# Altium schematic symbol library J 接插件.SchLib: 59 symbols
Pins are listed as number, name and electrical type; pins without a type are passive.

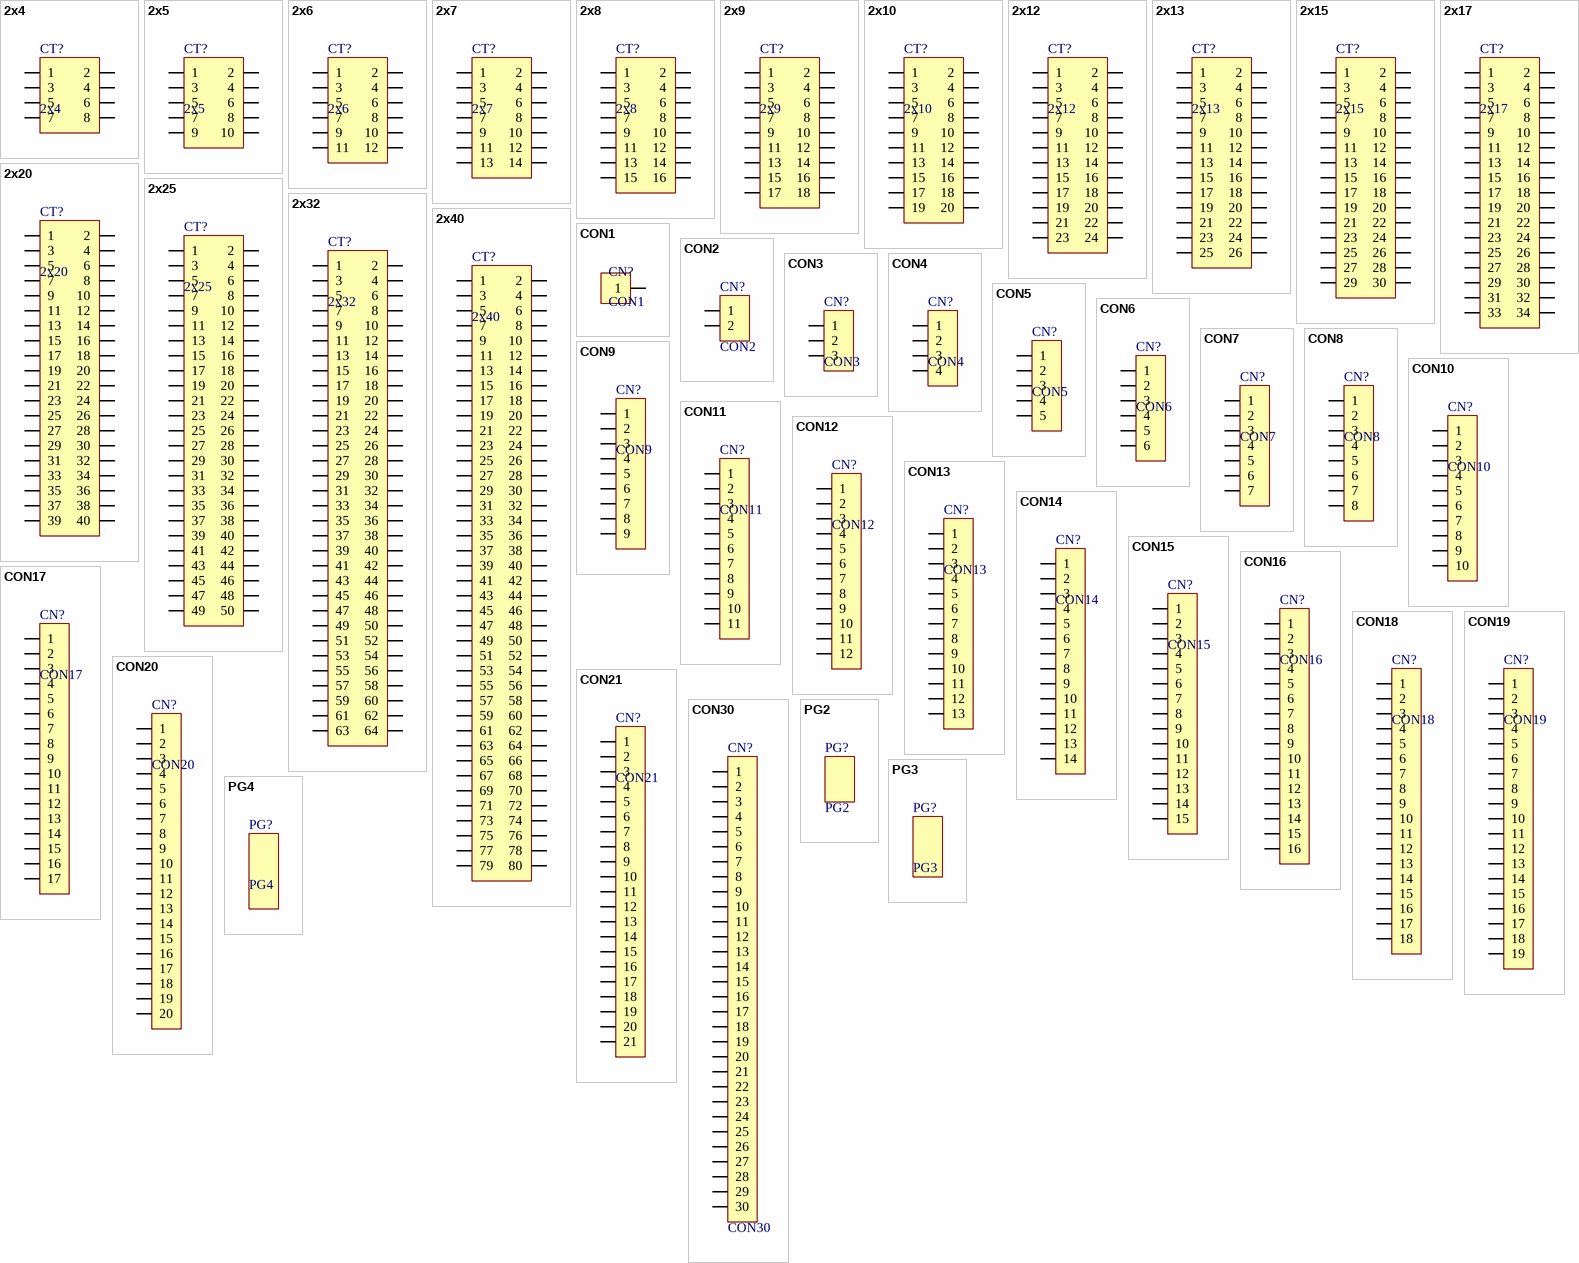
[diagram p0: symbols 2x4 to PG4]

## 2x4
designator CT?
双排，8针
pins: 1, 2, 3, 4, 5, 6, 7, 8

## 2x5
designator CT?
双排，10针
pins: 1, 2, 3, 4, 5, 6, 7, 8, 9, 10

## 2x6
designator CT?
双排，12针
pins: 1, 2, 3, 4, 5, 6, 7, 8, 9, 10, 11, 12

## 2x7
designator CT?
双排，14针
pins: 1, 2, 3, 4, 5, 6, 7, 8, 9, 10, 11, 12, 13, 14

## 2x8
designator CT?
双排，16针
pins: 1, 2, 3, 4, 5, 6, 7, 8, 9, 10, 11, 12, 13, 14, 15, 16

## 2x9
designator CT?
双排，18针
pins: 1, 2, 3, 4, 5, 6, 7, 8, 9, 10, 11, 12, 13, 14, 15, 16, 17, 18

## 2x10
designator CT?
双排，20针
pins: 1, 2, 3, 4, 5, 6, 7, 8, 9, 10, 11, 12, 13, 14, 15, 16, 17, 18, 19, 20

## 2x12
designator CT?
双排，24针
pins: 1, 2, 3, 4, 5, 6, 7, 8, 9, 10, 11, 12, 13, 14, 15, 16, 17, 18, 19, 20, 21, 22, 23, 24

## 2x13
designator CT?
双排，26针
pins: 1, 2, 3, 4, 5, 6, 7, 8, 9, 10, 11, 12, 13, 14, 15, 16, 17, 18, 19, 20, 21, 22, 23, 24, 25, 26

## 2x15
designator CT?
双排，30针
pins: 1, 2, 3, 4, 5, 6, 7, 8, 9, 10, 11, 12, 13, 14, 15, 16, 17, 18, 19, 20, 21, 22, 23, 24, 25, 26, 27, 28, 29, 30

## 2x17
designator CT?
双排，34针
pins: 1, 2, 3, 4, 5, 6, 7, 8, 9, 10, 11, 12, 13, 14, 15, 16, 17, 18, 19, 20, 21, 22, 23, 24, 25, 26, 27, 28, 29, 30, 31, 32, 33, 33 34

## 2x20
designator CT?
双排，40针
pins: 1, 2, 3, 4, 5, 6, 7, 8, 9, 10, 11, 12, 13, 14, 15, 16, 17, 18, 19, 20, 21, 22, 23, 24, 25, 26, 27, 28, 29, 30, 31, 32, 33, 34, 35, 36, 37, 38, 39, 40

## 2x25
designator CT?
双排，50针
pins: 1, 2, 3, 4, 5, 6, 7, 8, 9, 10, 11, 12, 13, 14, 15, 16, 17, 18, 19, 20, 21, 22, 23, 24, 25, 26, 27, 28, 29, 30, 31, 32, 33, 33 34, 35, 36, 37, 38, 39, 40, 41, 42, 43, 44, 45, 46, 47, 48, 49, 50

## 2x32
designator CT?
双排，64针
pins: 1, 2, 3, 4, 5, 6, 7, 8, 9, 10, 11, 12, 13, 14, 15, 16, 17, 18, 19, 20, 21, 22, 23, 24, 25, 26, 27, 28, 29, 30, 31, 32, 33, 33 34, 35, 36, 37, 38, 39, 40, 41, 42, 43, 44, 45, 46, 47, 48, 49, 50, 51, 52, 53, 54, 55, 56, 57, 58, 59, 60, 61, 62, 63, 64

## 2x40
designator CT?
双排，80针
pins: 1, 2, 3, 4, 5, 6, 7, 8, 9, 10, 11, 12, 13, 14, 15, 16, 17, 18, 19, 20, 21, 22, 23, 24, 25, 26, 27, 28, 29, 30, 31, 32, 33, 34, 35, 36, 37, 38, 39, 40, 41, 42, 43, 44, 45, 46, 47, 48, 49, 50, 51, 52, 53, 54, 55, 56, 57, 58, 59, 60, 61, 62, 63, 64, 65, 66, 67, 68, 69, 70, 71, 72, 73, 74, 75, 76, 77, 78, 79, 80

## CON1
designator CN?
pins: 1

## CON2
designator CN?
pins: 1, 2

## CON3
designator CN?
pins: 1, 2, 3

## CON4
designator CN?
pins: 1, 2, 3, 4

## CON5
designator CN?
pins: 1, 2, 3, 4, 5

## CON6
designator CN?
pins: 1, 2, 3, 4, 5, 6

## CON7
designator CN?
pins: 1, 2, 3, 4, 5, 6, 7

## CON8
designator CN?
pins: 1, 2, 3, 4, 5, 6, 7, 8

## CON9
designator CN?
pins: 1, 2, 3, 4, 5, 6, 7, 8, 9

## CON10
designator CN?
pins: 1, 2, 3, 4, 5, 6, 7, 8, 9, 10

## CON11
designator CN?
pins: 1, 2, 3, 4, 5, 6, 7, 8, 9, 10, 11

## CON12
designator CN?
pins: 1, 2, 3, 4, 5, 6, 7, 8, 9, 10, 11, 12

## CON13
designator CN?
pins: 1, 2, 3, 4, 5, 6, 7, 8, 9, 10, 11, 12, 13

## CON14
designator CN?
pins: 1, 2, 3, 4, 5, 6, 7, 8, 9, 10, 11, 12, 13, 14

## CON15
designator CN?
pins: 1, 2, 3, 4, 5, 6, 7, 8, 9, 10, 11, 12, 13, 14, 15

## CON16
designator CN?
pins: 1, 2, 3, 4, 5, 6, 7, 8, 9, 10, 11, 12, 13, 14, 15, 16

## CON17
designator CN?
pins: 1, 2, 3, 4, 5, 6, 7, 8, 9, 10, 11, 12, 13, 14, 15, 16, 17

## CON18
designator CN?
pins: 1, 2, 3, 4, 5, 6, 7, 8, 9, 10, 11, 12, 13, 14, 15, 16, 17, 18

## CON19
designator CN?
pins: 1, 2, 3, 4, 5, 6, 7, 8, 9, 10, 11, 12, 13, 14, 15, 16, 17, 18, 19

## CON20
designator CN?
pins: 1, 2, 3, 4, 5, 6, 7, 8, 9, 10, 11, 12, 13, 14, 15, 16, 17, 18, 19, 20

## CON21
designator CN?
pins: 1, 2, 3, 4, 5, 6, 7, 8, 9, 10, 11, 12, 13, 14, 15, 16, 17, 18, 19, 20, 21

## CON30
designator CN?
pins: 1, 2, 3, 4, 5, 6, 7, 8, 9, 10, 11, 12, 13, 14, 15, 16, 17, 18, 19, 20, 21, 22, 23, 24, 25, 26, 27, 28, 29, 30

## PG2
designator PG?

## PG3
designator PG?

## PG4
designator PG?

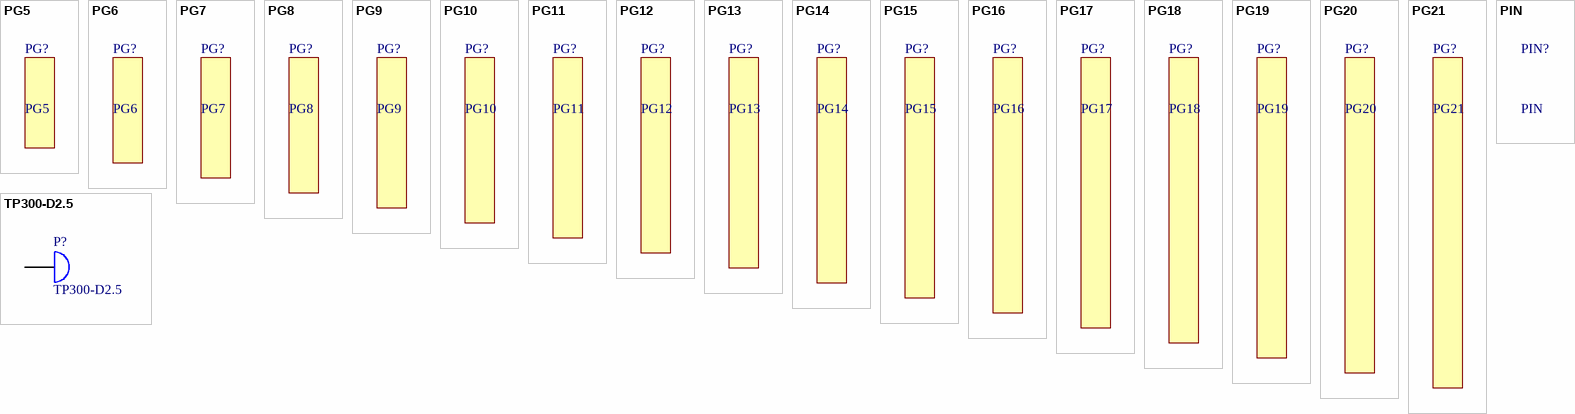
[diagram p1: symbols PG5 to TP300-D2.5]

## PG5
designator PG?

## PG6
designator PG?

## PG7
designator PG?

## PG8
designator PG?

## PG9
designator PG?

## PG10
designator PG?

## PG11
designator PG?

## PG12
designator PG?

## PG13
designator PG?

## PG14
designator PG?

## PG15
designator PG?

## PG16
designator PG?

## PG17
designator PG?

## PG18
designator PG?

## PG19
designator PG?

## PG20
designator PG?

## PG21
designator PG?

## PIN
designator PIN?

## TP300-D2.5
designator P?
探针（镀金）
pins: 1